# Altium footprint library PCB - LEADLESS - SON - TI WSON-10 DSC.PCBLIB: 1 footprints
Each footprint in its own frame and in the unit in brackets; x right, y up, seen from the top. Pads: shape width x height; smd on the part's side, far side on the other; paste and mask are expansions set on the pad; w line width, h text height; cw(c..) or ccw(c..) is an arc to the next point about the centre after c.
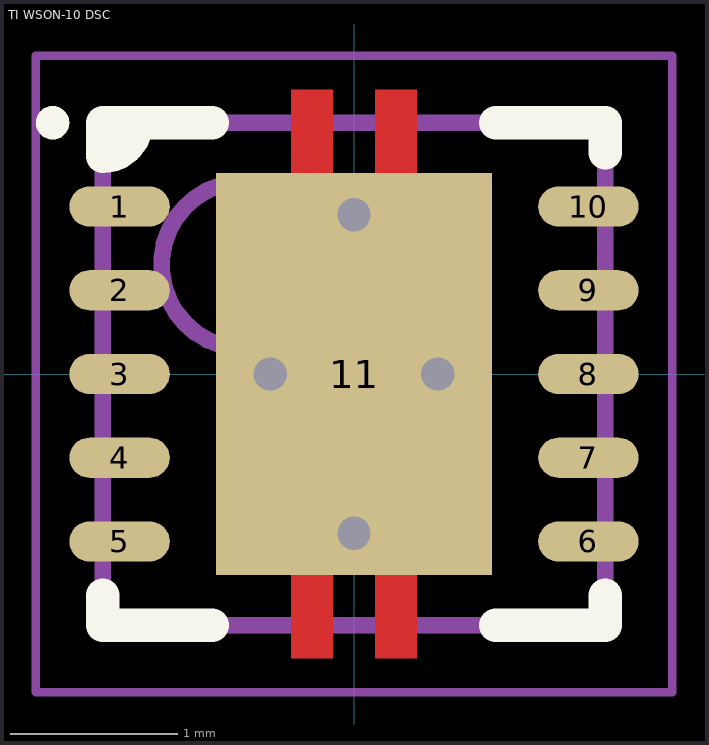
[diagram p0: the footprint, top view; thin cyan lines are the x and y axes]

## TI WSON-10 DSC [mm] "SON, 10-Leads, Body 3.00x3.00mm, Pitch 0.50mm, Thermal Pad 1.65x2.40mm, IPC Medium Density"
height 0.8
pads (11):
  oval 0.6x0.24 smd mask+0.07: 1(-1.4,1) 2(-1.4,0.5) 3(-1.4,0) 4(-1.4,-0.5) 5(-1.4,-1) 6(1.4,-1) 7(1.4,-0.5) 8(1.4,0) 9(1.4,0.5) 10(1.4,1)
  rect 1.65x2.4 smd paste-1.17 mask+0.07: 11(0,0)
via 0,0.95 diameter 0.45 hole 0.2
via -0.5,0 diameter 0.45 hole 0.2
via 0.5,0 diameter 0.45 hole 0.2
via 0,-0.95 diameter 0.45 hole 0.2
Top Layer:
  region: -0.375,-1 -0.375,-1.7 -0.125,-1.7 -0.125,-1
  region: 0.125,-1 0.125,-1.7 0.375,-1.7 0.375,-1
  region: -0.125,1 -0.125,1.7 -0.375,1.7 -0.375,1
  region: 0.375,1 0.375,1.7 0.125,1.7 0.125,1
Top Overlay:
  circle w0.1: c-1.8,1.5 r0.05
  lines w0.2: -1.5,-1.32 -1.5,-1.5 -0.845,-1.5 ; -1.5,1.3 ccw(c-1.5,1.5) -1.3,1.5 ; -1.5,1.32 -1.5,1.5 -0.845,1.5 ; 0.845,-1.5 1.5,-1.5 1.5,-1.32 ; 0.845,1.5 1.5,1.5 1.5,1.32
Top Paste:
  rectangle: -0.75,0.1 0.75,1.16
  rectangle: -0.75,-1.16 0.75,-0.1
  rectangle: -0.375,-1.7 -0.125,-1.36
  region: 0.375,-1.36 0.125,-1.36 0.125,-1.7 0.375,-1.7
  rectangle: -0.375,1.36 -0.125,1.7
  region: 0.375,1.7 0.125,1.7 0.125,1.36 0.375,1.36
Mechanical 13:
  circle w0.1: c-0.65,0.65 r0.5
  lines w0.1: -1.5,-1.5 -1.5,1.5 1.5,1.5 1.5,-1.5 -1.5,-1.5
Mechanical 15:
  lines w0.05: -1.9,-1.9 -1.9,1.9 1.9,1.9 1.9,-1.9 -1.9,-1.9
  lines w0.1: -0.5,0 0.5,0 ; 0,-0.5 0,0.5
3D body "SON50P300X80_HS-11N.step": height 0.8, standoff 0, extent -1.55,-1.5 1.55,1.5